# EAGLE library part CC1000 (library chipcon-ti)
Single Chip Very Low Power RF Transceiver
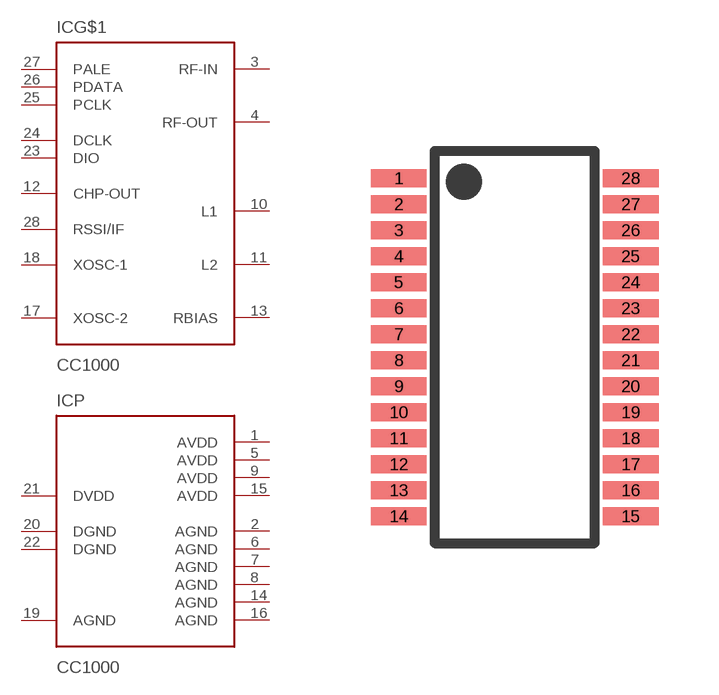
[diagram p2: symbol with the pads of TSSOP28; footprint TSSOP28]

Designator prefix IC; gates G$1=CC1000 P=CC1000-PWR

## CC1000  [TSSOP28]
1  P:AVDD  pwr
2  P:AGND  pwr
3  G$1:RF-IN  in
4  G$1:RF-OUT  out
5  P:AVDD  pwr
6  P:AGND  pwr
7  P:AGND  pwr
8  P:AGND  pwr
9  P:AVDD  pwr
10  G$1:L1  in
11  G$1:L2  in
12  G$1:CHP-OUT  out
13  G$1:RBIAS  out
14  P:AGND  pwr
15  P:AVDD  pwr
16  P:AGND  pwr
17  G$1:XOSC-2  out
18  G$1:XOSC-1  in
19  P:AGND  pwr
20  P:DGND  pwr
21  P:DVDD  pwr
22  P:DGND  pwr
23  G$1:DIO
24  G$1:DCLK  out
25  G$1:PCLK  in
26  G$1:PDATA
27  G$1:PALE  in
28  G$1:RSSI/IF  out

## Footprint TSSOP28 (pad centres in mm)
Thin Shrink Small Outline Package ICP7351 - TSOP65P640X120-28N
smd 1.4 x 0.45: 1 -2.9,4.225; 2 -2.9,3.575; 3 -2.9,2.925; 4 -2.9,2.275; 5 -2.9,1.625; 6 -2.9,0.975; 7 -2.9,0.325; 8 -2.9,-0.325; 9 -2.9,-0.975; 10 -2.9,-1.625; 11 -2.9,-2.275; 12 -2.9,-2.925; 13 -2.9,-3.575; 14 -2.9,-4.225; 15 2.9,-4.225; 16 2.9,-3.575; 17 2.9,-2.925; 18 2.9,-2.275; 19 2.9,-1.625; 20 2.9,-0.975; 21 2.9,-0.325; 22 2.9,0.325; 23 2.9,0.975; 24 2.9,1.625; 25 2.9,2.275; 26 2.9,2.925; 27 2.9,3.575; 28 2.9,4.225